# EAGLE library part KSZ8061RN (library Microchip)
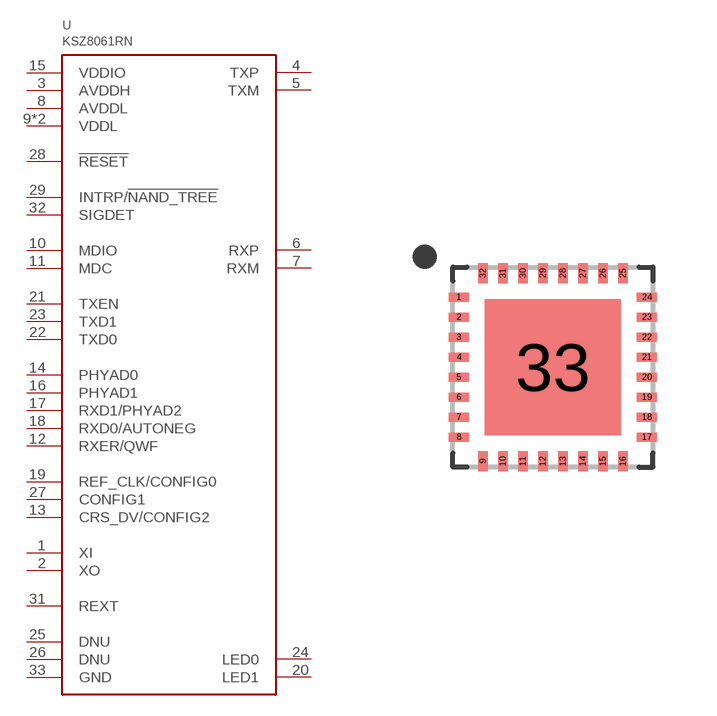
[diagram p50: symbol with the pads of WQFN32; footprint WQFN32]

Designator prefix U

## KSZ8061RNB, KSZ8061RND  [WQFN32]
1  XI
2  XO
3  AVDDH
4  TXP
5  TXM
6  RXP
7  RXM
8  AVDDL
9  VDDL
10  MDIO
11  MDC
12  RXER/QWF
13  CRS_DV/CONFIG2
14  PHYAD0
15  VDDIO
16  PHYAD1
17  RXD1/PHYAD2
18  RXD0/AUTONEG
19  REF_CLK/CONFIG0
20  LED1
21  TXEN
22  TXD0
23  TXD1
24  LED0
25  DNU
26  DNU
27  CONFIG1
28  !RESET
29  INTRP/!NAND_TREE
30  VDDL
31  REXT
32  SIGDET
33  GND

## Footprint WQFN32 (pad centres in mm)
smd 0.5 x 0.23: 1 -2.35,1.75; 2 -2.35,1.25; 3 -2.35,0.75; 4 -2.35,0.25; 5 -2.35,-0.25; 6 -2.35,-0.75; 7 -2.35,-1.25; 8 -2.35,-1.75; 17 2.35,-1.75; 18 2.35,-1.25; 19 2.35,-0.75; 20 2.35,-0.25; 21 2.35,0.25; 22 2.35,0.75; 23 2.35,1.25; 24 2.35,1.75
smd 0.23 x 0.5: 9 -1.75,-2.35; 10 -1.25,-2.35; 11 -0.75,-2.35; 12 -0.25,-2.35; 13 0.25,-2.35; 14 0.75,-2.35; 15 1.25,-2.35; 16 1.75,-2.35; 25 1.75,2.35; 26 1.25,2.35; 27 0.75,2.35; 28 0.25,2.35; 29 -0.25,2.35; 30 -0.75,2.35; 31 -1.25,2.35; 32 -1.75,2.35
smd 3.4 x 3.4: 33 0,0